# Altium integrated library Resistors.IntLib: 255 symbols (part 2 of 3)
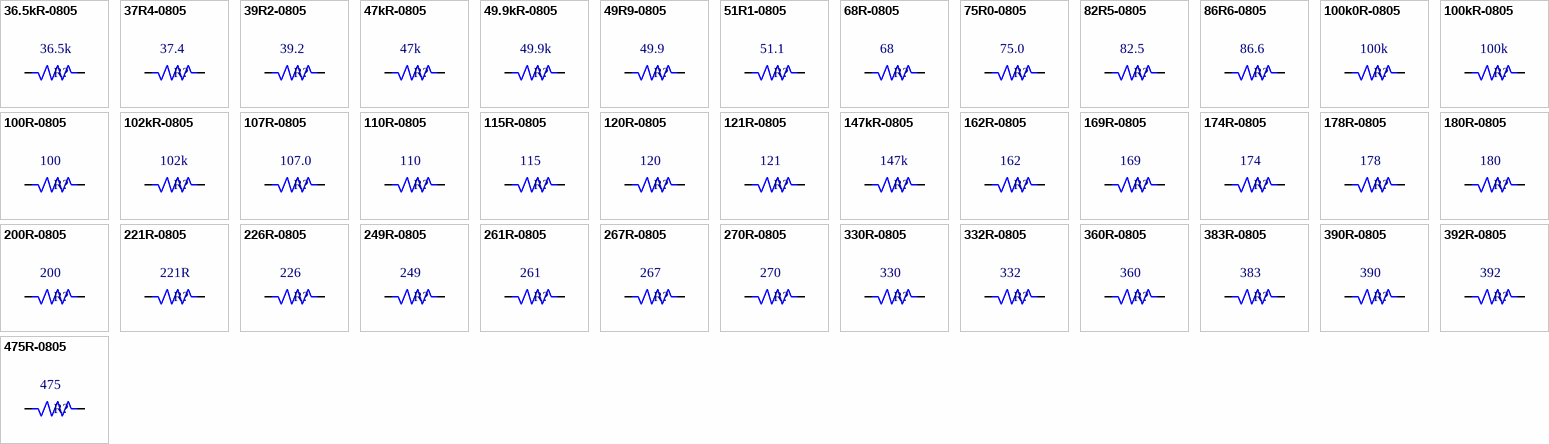
[diagram p11: symbols 36.5kR-0805 to 475R-0805]

## 75R0-0805
designator R?, comment value 75.0  (hidden comment: 75R0, 0805)
75R0, 0805 SMT resistor, 1/8W, 1%; PackageDescription: Chip Resistor 0805; Supplier 1: Mouser; Supplier 2: Newark; Supplier Part Number 1: 71-CRCW080575R0FKEB; Supplier Part Number 2: 53K0467; Package Reference: 0805
simulation model RESISTOR (Resistor)
signal-integrity model Res
footprint R0805 (Chip Resistor, Body 2.0x1.2mm, IPC Medium Density)
3D model 0805-Res (PCB3D Model)
pins: 1, 2

## 82R5-0805
designator R?, comment value 82.5  (hidden comment: 82R5, 0805)
82R5, 0805 SMT resistor, 1/8W, 1%; PackageDescription: Chip Resistor 0805; Supplier 1: Mouser; Supplier 2: Digi-Key; Supplier 3: Newark; Supplier Part Number 1: 71-CRCW0805-82.5-E3; Supplier Part Number 2: 541-82.5CDKR-ND; Supplier Part Number 3: 53W4915; Package Reference: 0805
simulation model RESISTOR (Resistor)
signal-integrity model Res
footprint R0805 (Chip Resistor, Body 2.0x1.2mm, IPC Medium Density)
3D model 0805-Res (PCB3D Model)
pins: 1, 2

## 86R6-0805
designator R?, comment value 86.6  (hidden comment: 86R6, 0805)
86R6, 0805 SMT resistor, 1/8W, 1%; PackageDescription: Chip Resistor 0805; Supplier 1: Arrow; Supplier 2: Mouser; Supplier 3: Digi-Key; Supplier 4: Newark; Supplier Part Number 1: CRCW080586R6FKEAHP; Supplier Part Number 2: 71-CRCW0805-86.6-E3; Supplier Part Number 3: 541-86.6CTR-ND; Supplier Part Number 4: 53K0518; Package Reference: 0805
simulation model RESISTOR (Resistor)
signal-integrity model Res
footprint R0805 (Chip Resistor, Body 2.0x1.2mm, IPC Medium Density)
3D model 0805-Res (PCB3D Model)
pins: 1, 2

## 100k0R-0805
designator R?, comment value 100k  (hidden comment: 100k, 0805)
100k, 0805 SMT resistor, 1/8W, 1%; PackageDescription: Chip Resistor 0805; Supplier 1: Newark; Supplier 2: Digi-Key; Supplier 3: Mouser; Supplier Part Number 1: 52K9808; Supplier Part Number 2: 541-100KCCT-ND; Supplier Part Number 3: 71-CRCW0805-100K-E3; Package Reference: 0805
simulation model RESISTOR (Resistor)
signal-integrity model Res
footprint R0805 (Chip Resistor, Body 2.0x1.2mm, IPC Medium Density)
3D model 0805-Res (PCB3D Model)
pins: 1, 2

## 100kR-0805
designator R?, comment value 100k  (hidden comment: 100k, 0805)
100k, 0805 SMT resistor, 1/8W, 5%; PackageDescription: Chip Resistor 0805; Supplier 1: Digi-Key; Supplier 2: Newark; Supplier 3: Mouser; Supplier Part Number 1: 541-100KADKR-ND; Supplier Part Number 2: 59M6850; Supplier Part Number 3: 71-CRCW0805J-100K-E3; Package Reference: 0805
simulation model RESISTOR (Resistor)
signal-integrity model Res
footprint R0805 (Chip Resistor, Body 2.0x1.2mm, IPC Medium Density)
3D model 0805-Res (PCB3D Model)
pins: 1, 2

## 100R-0805
designator R?, comment value 100  (hidden comment: 100R, 0805)
100R, 0805 SMT resistor, 1/8W, 5%; PackageDescription: Chip Resistor 0805; Supplier 1: Mouser; Supplier 2: Digi-Key; Supplier 3: Newark; Supplier Part Number 1: 71-CRCW0805100RJNEA; Supplier Part Number 2: 541-100ADKR-ND; Supplier Part Number 3: 59M6851; Package Reference: 0805
simulation model RESISTOR (Resistor)
signal-integrity model Res
footprint R0805 (Chip Resistor, Body 2.0x1.2mm, IPC Medium Density)
3D model 0805-Res (PCB3D Model)
pins: 1, 2

## 102kR-0805
designator R?, comment value 102k  (hidden comment: 102k, 0805)
102k, 0805 SMT resistor, 1/8W, 1%; PackageDescription: Chip Resistor 0805; Supplier 1: Mouser; Supplier 2: Newark; Supplier 3: Digi-Key; Supplier Part Number 1: 71-CRCW0805102KFKEA; Supplier Part Number 2: 89M6802; Supplier Part Number 3: 541-102KCCT-ND; Package Reference: 0805
simulation model RESISTOR (Resistor)
signal-integrity model Res
footprint R0805 (Chip Resistor, Body 2.0x1.2mm, IPC Medium Density)
3D model 0805-Res (PCB3D Model)
pins: 1, 2

## 107R-0805
designator R?, comment value 107.0  (hidden comment: 107R, 0805)
107R, 0805 SMT resistor, 1/8W, 1%; PackageDescription: Chip Resistor 0805; Supplier 1: Newark; Supplier 2: Mouser; Supplier 3: Digi-Key; Supplier Part Number 1: 90W3249; Supplier Part Number 2: 71-CRCW0805-107-E3; Supplier Part Number 3: 541-107CTR-ND; Package Reference: 0805
simulation model RESISTOR (Resistor)
signal-integrity model Res
footprint R0805 (Chip Resistor, Body 2.0x1.2mm, IPC Medium Density)
3D model 0805-Res (PCB3D Model)
pins: 1, 2

## 110R-0805
designator R?, comment value 110  (hidden comment: 110R, 0805)
110R, 0805 SMT resistor, 1/8W, 1%; PackageDescription: Chip Resistor 0805; Supplier 1: Digi-Key; Supplier 2: Mouser; Supplier 3: Newark; Supplier Part Number 1: 541-110CTR-ND; Supplier Part Number 2: 71-CRCW0805-110-E3; Supplier Part Number 3: 52K9828; Package Reference: 0805
simulation model RESISTOR (Resistor)
signal-integrity model Res
footprint R0805 (Chip Resistor, Body 2.0x1.2mm, IPC Medium Density)
3D model 0805-Res (PCB3D Model)
pins: 1, 2

## 115R-0805
designator R?, comment value 115  (hidden comment: 115R, 0805)
115R, 0805 SMT resistor, 1/8W, 1%; PackageDescription: Chip Resistor 0805; Supplier 1: Mouser; Supplier 2: Newark; Supplier 3: Arrow; Supplier 4: Digi-Key; Supplier Part Number 1: 71-CRCW0805-115-E3; Supplier Part Number 2: 52K9833; Supplier Part Number 3: CRCW0805115RFKEA; Supplier Part Number 4: 541-115CTR-ND; Package Reference: 0805
simulation model RESISTOR (Resistor)
signal-integrity model Res
footprint R0805 (Chip Resistor, Body 2.0x1.2mm, IPC Medium Density)
3D model 0805-Res (PCB3D Model)
pins: 1, 2

## 120R-0805
designator R?, comment value 120  (hidden comment: 120R, 0805)
120R, 0805 SMT resistor, 1/8W, 1%; PackageDescription: Chip Resistor 0805; Supplier 1: Digi-Key; Supplier 2: Mouser; Supplier 3: Newark; Supplier Part Number 1: 541-120CTR-ND; Supplier Part Number 2: 71-CRCW0805120RFKEA; Supplier Part Number 3: 52K9845; Package Reference: 0805
simulation model RESISTOR (Resistor)
signal-integrity model Res
footprint R0805 (Chip Resistor, Body 2.0x1.2mm, IPC Medium Density)
3D model 0805-Res (PCB3D Model)
pins: 1, 2

## 121R-0805
designator R?, comment value 121  (hidden comment: 121R, 0805)
121R, 0805 SMT resistor, 1/8W, 1%; PackageDescription: Chip Resistor 0805; Supplier 1: Newark; Supplier 2: Digi-Key; Supplier 3: Mouser; Supplier Part Number 1: 52K9848; Supplier Part Number 2: 541-121CTR-ND; Supplier Part Number 3: 71-CRCW0805-121-E3; Package Reference: 0805
simulation model RESISTOR (Resistor)
signal-integrity model Res
footprint R0805 (Chip Resistor, Body 2.0x1.2mm, IPC Medium Density)
3D model 0805-Res (PCB3D Model)
pins: 1, 2

## 147kR-0805
designator R?, comment value 147k  (hidden comment: 147k, 0805)
147k, 0805 SMT resistor, 1/8W, 1%; PackageDescription: Chip Resistor 0805; Supplier 1: Newark; Supplier 2: Mouser; Supplier 3: Digi-Key; Supplier 4: Newark; Supplier 5: Newark; Supplier Part Number 1: 52K9880; Supplier Part Number 2: 71-CRCW0805-147K-E3; Supplier Part Number 3: 541-147KCCT-ND; Supplier Part Number 4: 94W6088; Supplier Part Number 5: 90W3298; Package Reference: 0805
simulation model RESISTOR (Resistor)
signal-integrity model Res
footprint R0805 (Chip Resistor, Body 2.0x1.2mm, IPC Medium Density)
3D model 0805-Res (PCB3D Model)
pins: 1, 2

## 162R-0805
designator R?, comment value 162  (hidden comment: 162R, 0805)
162R, 0805 SMT resistor, 1/8W, 1%; PackageDescription: Chip Resistor 0805; Supplier 1: Newark; Supplier 2: Newark; Supplier 3: Digi-Key; Supplier 4: Digi-Key; Supplier Part Number 1: 52K9909; Supplier Part Number 2: 90W3318; Supplier Part Number 3: CRCW0805162RFKEAHP-ND; Supplier Part Number 4: 541-162CCT-ND; Package Reference: 0805
simulation model RESISTOR (Resistor)
signal-integrity model Res
footprint R0805 (Chip Resistor, Body 2.0x1.2mm, IPC Medium Density)
3D model 0805-Res (PCB3D Model)
pins: 1, 2

## 169R-0805
designator R?, comment value 169  (hidden comment: 169R, 0805)
169R, 0805 SMT resistor, 1/8W, 1%; PackageDescription: Chip Resistor 0805; Supplier 1: Digi-Key; Supplier 2: Newark; Supplier 3: Mouser; Supplier Part Number 1: 541-169CCT-ND; Supplier Part Number 2: 52K9913; Supplier Part Number 3: 71-CRCW0805-169-E3; Package Reference: 0805
simulation model RESISTOR (Resistor)
signal-integrity model Res
footprint R0805 (Chip Resistor, Body 2.0x1.2mm, IPC Medium Density)
3D model 0805-Res (PCB3D Model)
pins: 1, 2

## 174R-0805
designator R?, comment value 174  (hidden comment: 174R, 0805)
174R, 0805 SMT resistor, 1/8W, 1%; PackageDescription: Chip Resistor 0805; Supplier 1: Mouser; Supplier 2: Digi-Key; Supplier 3: Newark; Supplier Part Number 1: 71-CRCW0805-174-E3; Supplier Part Number 2: 541-174CCT-ND; Supplier Part Number 3: 52K9920; Package Reference: 0805
simulation model RESISTOR (Resistor)
signal-integrity model Res
footprint R0805 (Chip Resistor, Body 2.0x1.2mm, IPC Medium Density)
3D model 0805-Res (PCB3D Model)
pins: 1, 2

## 178R-0805
designator R?, comment value 178  (hidden comment: 178R, 0805)
178R, 0805 SMT resistor, 1/8W, 1%; PackageDescription: Chip Resistor 0805; Supplier 1: Newark; Supplier 2: Digi-Key; Supplier 3: Mouser; Supplier Part Number 1: 52K9922; Supplier Part Number 2: 541-178CCT-ND; Supplier Part Number 3: 71-CRCW0805-178-E3; Package Reference: 0805
simulation model RESISTOR (Resistor)
signal-integrity model Res
footprint R0805 (Chip Resistor, Body 2.0x1.2mm, IPC Medium Density)
3D model 0805-Res (PCB3D Model)
pins: 1, 2

## 180R-0805
designator R?, comment value 180  (hidden comment: 180R, 0805)
180R, 0805 SMT resistor, 1/8W, 5%; PackageDescription: Chip Resistor 0805; Supplier 1: Newark; Supplier 2: Digi-Key; Supplier 3: Mouser; Supplier Part Number 1: 59M6863; Supplier Part Number 2: 541-180ACT-ND; Supplier Part Number 3: 71-CRCW0805180RJNEA; Package Reference: 0805
simulation model RESISTOR (Resistor)
signal-integrity model Res
footprint R0805 (Chip Resistor, Body 2.0x1.2mm, IPC Medium Density)
3D model 0805-Res (PCB3D Model)
pins: 1, 2

## 200R-0805
designator R?, comment value 200  (hidden comment: 200R, 0805)
200R, 0805 SMT resistor, 1/8W, 1%; PackageDescription: Chip Resistor 0805; Supplier 1: Mouser; Supplier 2: Digi-Key; Supplier 3: Newark; Supplier Part Number 1: 71-CRCW0805-200-E3; Supplier Part Number 2: 541-200CCT-ND; Supplier Part Number 3: 53K0006; Package Reference: 0805
simulation model RESISTOR (Resistor)
signal-integrity model Res
footprint R0805 (Chip Resistor, Body 2.0x1.2mm, IPC Medium Density)
3D model 0805-Res (PCB3D Model)
pins: 1, 2

## 221R-0805
designator R?, comment value 221R  (hidden comment: 221R, 0805)
221R, 0805 SMT resistor, 1/8W, 1%; PackageDescription: Chip Resistor 0805; Supplier 1: Newark; Supplier 2: Digi-Key; Supplier 3: Newark; Supplier 4: Mouser; Supplier Part Number 1: 53K0029; Supplier Part Number 2: 541-221CCT-ND; Supplier Part Number 3: 65T8720; Supplier Part Number 4: 71-CRCW0805-221-E3; Package Reference: 0805
simulation model RESISTOR (Resistor)
signal-integrity model Res
footprint R0805 (Chip Resistor, Body 2.0x1.2mm, IPC Medium Density)
3D model 0805-Res (PCB3D Model)
pins: 1, 2

## 226R-0805
designator R?, comment value 226  (hidden comment: 226R, 0805)
226R, 0805 SMT resistor, 1/8W, 1%; PackageDescription: Chip Resistor 0805; Supplier 1: Digi-Key; Supplier 2: Newark; Supplier 3: Mouser; Supplier Part Number 1: 541-226CCT-ND; Supplier Part Number 2: 53K0031; Supplier Part Number 3: 71-CRCW0805226RFKEA; Package Reference: 0805
simulation model RESISTOR (Resistor)
signal-integrity model Res
footprint R0805 (Chip Resistor, Body 2.0x1.2mm, IPC Medium Density)
3D model 0805-Res (PCB3D Model)
pins: 1, 2

## 249R-0805
designator R?, comment value 249  (hidden comment: 249R, 0805)
249R, 0805 SMT resistor, 1/8W, 1%; PackageDescription: Chip Resistor 0805; Supplier 1: Digi-Key; Supplier 2: Mouser; Supplier 3: Newark; Supplier Part Number 1: 541-249CCT-ND; Supplier Part Number 2: 71-CRCW0805-249-E3; Supplier Part Number 3: 53K0052; Package Reference: 0805
simulation model RESISTOR (Resistor)
signal-integrity model Res
footprint R0805 (Chip Resistor, Body 2.0x1.2mm, IPC Medium Density)
3D model 0805-Res (PCB3D Model)
pins: 1, 2

## 261R-0805
designator R?, comment value 261  (hidden comment: xxx, 0805)
261R, 0805 SMT resistor, 1/8W, 1%; PackageDescription: Chip Resistor 0805; Supplier 1: Newark; Supplier 2: Mouser; Supplier 3: Digi-Key; Supplier Part Number 1: 53K0065; Supplier Part Number 2: 71-CRCW0805-261-E3; Supplier Part Number 3: 541-261CCT-ND; Package Reference: 0805
simulation model RESISTOR (Resistor)
signal-integrity model Res
footprint R0805 (Chip Resistor, Body 2.0x1.2mm, IPC Medium Density)
3D model 0805-Res (PCB3D Model)
pins: 1, 2

## 267R-0805
designator R?, comment value 267  (hidden comment: 267R, 0805)
267R, 0805 SMT resistor, 1/8W, 1%; PackageDescription: Chip Resistor 0805; Supplier 1: Newark; Supplier 2: Digi-Key; Supplier 3: Mouser; Supplier 4: Newark; Supplier Part Number 1: 90W3390; Supplier Part Number 2: 541-267CCT-ND; Supplier Part Number 3: 71-CRCW0805-267-E3; Supplier Part Number 4: 27W4592; Package Reference: 0805
simulation model RESISTOR (Resistor)
signal-integrity model Res
footprint R0805 (Chip Resistor, Body 2.0x1.2mm, IPC Medium Density)
3D model 0805-Res (PCB3D Model)
pins: 1, 2

## 270R-0805
designator R?, comment value 270  (hidden comment: 270R, 0805)
270R, 0805 SMT resistor, 1/8W, 1%; PackageDescription: Chip Resistor 0805; Supplier 1: Newark; Supplier 2: Mouser; Supplier 3: Digi-Key; Supplier Part Number 1: 27W4597; Supplier Part Number 2: 71-CRCW0805-270-E3; Supplier Part Number 3: CRCW0805270RFKEAHPCT-ND; Package Reference: 0805
simulation model RESISTOR (Resistor)
signal-integrity model Res
footprint R0805 (Chip Resistor, Body 2.0x1.2mm, IPC Medium Density)
3D model 0805-Res (PCB3D Model)
pins: 1, 2

## 330R-0805
designator R?, comment value 330  (hidden comment: 330R, 0805)
330R, 0805 SMT resistor, 1/8W, 5%; PackageDescription: Chip Resistor 0805; Supplier 1: Mouser; Supplier 2: Newark; Supplier 3: Digi-Key; Supplier Part Number 1: 71-CRCW0805J-330-E3; Supplier Part Number 2: 59M6894; Supplier Part Number 3: 541-330ACT-ND; Package Reference: 0805
simulation model RESISTOR (Resistor)
signal-integrity model Res
footprint R0805 (Chip Resistor, Body 2.0x1.2mm, IPC Medium Density)
3D model 0805-Res (PCB3D Model)
pins: 1, 2

## 332R-0805
designator R?, comment value 332  (hidden comment: 332R, 0805)
332R, 0805 SMT resistor, 1/8W, 1%; PackageDescription: Chip Resistor 0805; Supplier 1: Newark; Supplier 2: Digi-Key; Supplier 3: Mouser; Supplier Part Number 1: 27W4644; Supplier Part Number 2: 541-332CCT-ND; Supplier Part Number 3: 71-CRCW0805-332-E3; Package Reference: 0805
simulation model RESISTOR (Resistor)
signal-integrity model Res
footprint R0805 (Chip Resistor, Body 2.0x1.2mm, IPC Medium Density)
3D model 0805-Res (PCB3D Model)
pins: 1, 2

## 360R-0805
designator R?, comment value 360  (hidden comment: 360R, 0805)
360R, 0805 SMT resistor, 1/8W, 1%; PackageDescription: Chip Resistor 0805; Supplier 1: Mouser; Supplier 2: Newark; Supplier 3: Digi-Key; Supplier Part Number 1: 71-CRCW0805360RFKEA; Supplier Part Number 2: 27W4659; Supplier Part Number 3: 541-360CCT-ND; Package Reference: 0805
simulation model RESISTOR (Resistor)
signal-integrity model Res
footprint R0805 (Chip Resistor, Body 2.0x1.2mm, IPC Medium Density)
3D model 0805-Res (PCB3D Model)
pins: 1, 2

## 383R-0805
designator R?, comment value 383  (hidden comment: 383R, 0805)
383R, 0805 SMT resistor, 1/8W, 1%; PackageDescription: Chip Resistor 0805; Supplier 1: Newark; Supplier 2: Digi-Key; Supplier 3: Mouser; Supplier Part Number 1: 27W4666; Supplier Part Number 2: 541-383CCT-ND; Supplier Part Number 3: 71-CRCW0805-383-E3; Package Reference: 0805
simulation model RESISTOR (Resistor)
signal-integrity model Res
footprint R0805 (Chip Resistor, Body 2.0x1.2mm, IPC Medium Density)
3D model 0805-Res (PCB3D Model)
pins: 1, 2

## 390R-0805
designator R?, comment value 390  (hidden comment: 390R, 0805)
390R, 0805 SMT resistor, 1/8W, 1%; PackageDescription: Chip Resistor 0805; Supplier 1: Mouser; Supplier 2: Newark; Supplier 3: Digi-Key; Supplier Part Number 1: 71-CRCW0805390RFKEA; Supplier Part Number 2: 27W4671; Supplier Part Number 3: 541-390CCT-ND; Package Reference: 0805
simulation model RESISTOR (Resistor)
signal-integrity model Res
footprint R0805 (Chip Resistor, Body 2.0x1.2mm, IPC Medium Density)
3D model 0805-Res (PCB3D Model)
pins: 1, 2

## 392R-0805
designator R?, comment value 392  (hidden comment: 392R, 0805)
392R, 0805 SMT resistor, 1/8W, 1%; PackageDescription: Chip Resistor 0805; Supplier 1: Digi-Key; Supplier 2: Mouser; Supplier 3: Newark; Supplier Part Number 1: 541-392CCT-ND; Supplier Part Number 2: 71-CRCW0805-392-E3; Supplier Part Number 3: 27W4673; Package Reference: 0805
simulation model RESISTOR (Resistor)
signal-integrity model Res
footprint R0805 (Chip Resistor, Body 2.0x1.2mm, IPC Medium Density)
3D model 0805-Res (PCB3D Model)
pins: 1, 2

## 475R-0805
designator R?, comment value 475  (hidden comment: 475R, 0805)
475R, 0805 SMT resistor, 1/8W, 1%; PackageDescription: Chip Resistor 0805; Supplier 1: Newark; Supplier 2: Digi-Key; Supplier 3: Mouser; Supplier Part Number 1: 53K0286; Supplier Part Number 2: 541-475CCT-ND; Supplier Part Number 3: 71-CRCW0805-475-E3; Package Reference: 0805
simulation model RESISTOR (Resistor)
signal-integrity model Res
footprint R0805 (Chip Resistor, Body 2.0x1.2mm, IPC Medium Density)
3D model 0805-Res (PCB3D Model)
pins: 1, 2

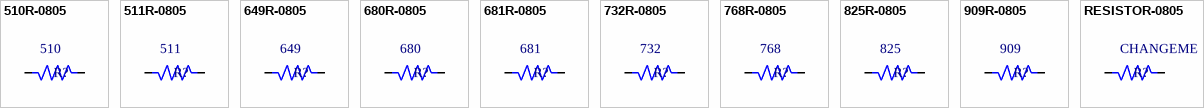
[diagram p4: symbols 510R-0805 to RESISTOR-0805]

## 510R-0805
designator R?, comment value 510  (hidden comment: 510R, 0805)
510R, 0805 SMT resistor, 1/8W, 5%; PackageDescription: Chip Resistor 0805; Supplier 1: Newark; Supplier 2: Mouser; Supplier 3: Digi-Key; Supplier Part Number 1: 51P0442; Supplier Part Number 2: 71-CRCW0805510RJNEA; Supplier Part Number 3: 541-510ACT-ND; Package Reference: 0805
simulation model RESISTOR (Resistor)
signal-integrity model Res
footprint R0805 (Chip Resistor, Body 2.0x1.2mm, IPC Medium Density)
3D model 0805-Res (PCB3D Model)
pins: 1, 2

## 511R-0805
designator R?, comment value 511  (hidden comment: 511R, 0805)
511R, 0805 SMT resistor, 1/8W, 1%; PackageDescription: Chip Resistor 0805; Supplier 1: Digi-Key; Supplier 2: Mouser; Supplier 3: Newark; Supplier Part Number 1: 541-511CCT-ND; Supplier Part Number 2: 71-CRCW0805-511-E3; Supplier Part Number 3: 53K0335; Package Reference: 0805
simulation model RESISTOR (Resistor)
signal-integrity model Res
footprint R0805 (Chip Resistor, Body 2.0x1.2mm, IPC Medium Density)
3D model 0805-Res (PCB3D Model)
pins: 1, 2

## 649R-0805
designator R?, comment value 649  (hidden comment: 649, 0805)
649, 0805 SMT resistor, 1/8W, 1%; PackageDescription: Chip Resistor 0805; Supplier 1: Digi-Key; Supplier 2: Newark; Supplier 3: Mouser; Supplier Part Number 1: 541-649CCT-ND; Supplier Part Number 2: 53K0422; Supplier Part Number 3: 71-CRCW0805-649-E3; Package Reference: 0805
simulation model RESISTOR (Resistor)
signal-integrity model Res
footprint R0805 (Chip Resistor, Body 2.0x1.2mm, IPC Medium Density)
3D model 0805-Res (PCB3D Model)
pins: 1, 2

## 680R-0805
designator R?, comment value 680  (hidden comment: 680, 0805)
680, 0805 SMT resistor, 1/8W, 1%; PackageDescription: Chip Resistor 0805; Supplier 1: Digi-Key; Supplier 2: Newark; Supplier 3: Mouser; Supplier Part Number 1: 541-680CCT-ND; Supplier Part Number 2: 53K0433; Supplier Part Number 3: 71-CRCW0805680RFKEA; Package Reference: 0805
simulation model RESISTOR (Resistor)
signal-integrity model Res
footprint R0805 (Chip Resistor, Body 2.0x1.2mm, IPC Medium Density)
3D model 0805-Res (PCB3D Model)
pins: 1, 2

## 681R-0805
designator R?, comment value 681  (hidden comment: 681R, 0805)
681R, 0805 SMT resistor, 1/8W, 1%; PackageDescription: Chip Resistor 0805; Supplier 1: Digi-Key; Supplier 2: Newark; Supplier 3: Mouser; Supplier Part Number 1: 541-681CCT-ND; Supplier Part Number 2: 53K0435; Supplier Part Number 3: 71-CRCW0805-681-E3; Package Reference: 0805
simulation model RESISTOR (Resistor)
signal-integrity model Res
footprint R0805 (Chip Resistor, Body 2.0x1.2mm, IPC Medium Density)
3D model 0805-Res (PCB3D Model)
pins: 1, 2

## 732R-0805
designator R?, comment value 732  (hidden comment: 732R, 0805)
732R, 0805 SMT resistor, 1/8W, 1%; PackageDescription: Chip Resistor 0805; Supplier 1: Digi-Key; Supplier 2: Newark; Supplier 3: Mouser; Supplier Part Number 1: 541-732CCT-ND; Supplier Part Number 2: 53K0465; Supplier Part Number 3: 71-CRCW0805732RFKEA; Package Reference: 0805
simulation model RESISTOR (Resistor)
signal-integrity model Res
footprint R0805 (Chip Resistor, Body 2.0x1.2mm, IPC Medium Density)
3D model 0805-Res (PCB3D Model)
pins: 1, 2

## 768R-0805
designator R?, comment value 768  (hidden comment: 768R, 0805)
768R, 0805 SMT resistor, 1/8W, 1%; PackageDescription: Chip Resistor 0805; Supplier 1: Newark; Supplier 2: Digi-Key; Supplier 3: Mouser; Supplier Part Number 1: 53K0474; Supplier Part Number 2: 541-768CCT-ND; Supplier Part Number 3: 71-CRCW0805-768-E3; Package Reference: 0805
simulation model RESISTOR (Resistor)
signal-integrity model Res
footprint R0805 (Chip Resistor, Body 2.0x1.2mm, IPC Medium Density)
3D model 0805-Res (PCB3D Model)
pins: 1, 2

## 825R-0805
designator R?, comment value 825  (hidden comment: 825R, 0805)
825R, 0805 SMT resistor, 1/8W, 1%; PackageDescription: Chip Resistor 0805; Supplier 1: Digi-Key; Supplier 2: Newark; Supplier 3: Mouser; Supplier Part Number 1: 541-825CCT-ND; Supplier Part Number 2: 53K0512; Supplier Part Number 3: 71-CRCW0805-825-E3; Package Reference: 0805
simulation model RESISTOR (Resistor)
signal-integrity model Res
footprint R0805 (Chip Resistor, Body 2.0x1.2mm, IPC Medium Density)
3D model 0805-Res (PCB3D Model)
pins: 1, 2

## 909R-0805
designator R?, comment value 909  (hidden comment: 909R, 0805)
909R, 0805 SMT resistor, 1/8W, 1%; PackageDescription: Chip Resistor 0805; Supplier 1: Newark; Supplier 2: Mouser; Supplier 3: Digi-Key; Supplier Part Number 1: 42K4703; Supplier Part Number 2: 71-CRCW0805-909-E3; Supplier Part Number 3: 541-909CCT-ND; Package Reference: 0805
simulation model RESISTOR (Resistor)
signal-integrity model Res
footprint R0805 (Chip Resistor, Body 2.0x1.2mm, IPC Medium Density)
3D model 0805-Res (PCB3D Model)
pins: 1, 2

## RESISTOR-0805
designator R?, comment value CHANGEME  (hidden comment: Generic Resistor, 0805)
Generic, 0805 SMT resistor, 1/8W, x%; PackageDescription: Chip Resistor 0805; Package Reference: 0805
simulation model RESISTOR (Resistor)
signal-integrity model Res
footprint R0805 (Chip Resistor, Body 2.0x1.2mm, IPC Medium Density)
3D model 1206-Res (PCB3D Model)
pins: 1, 2


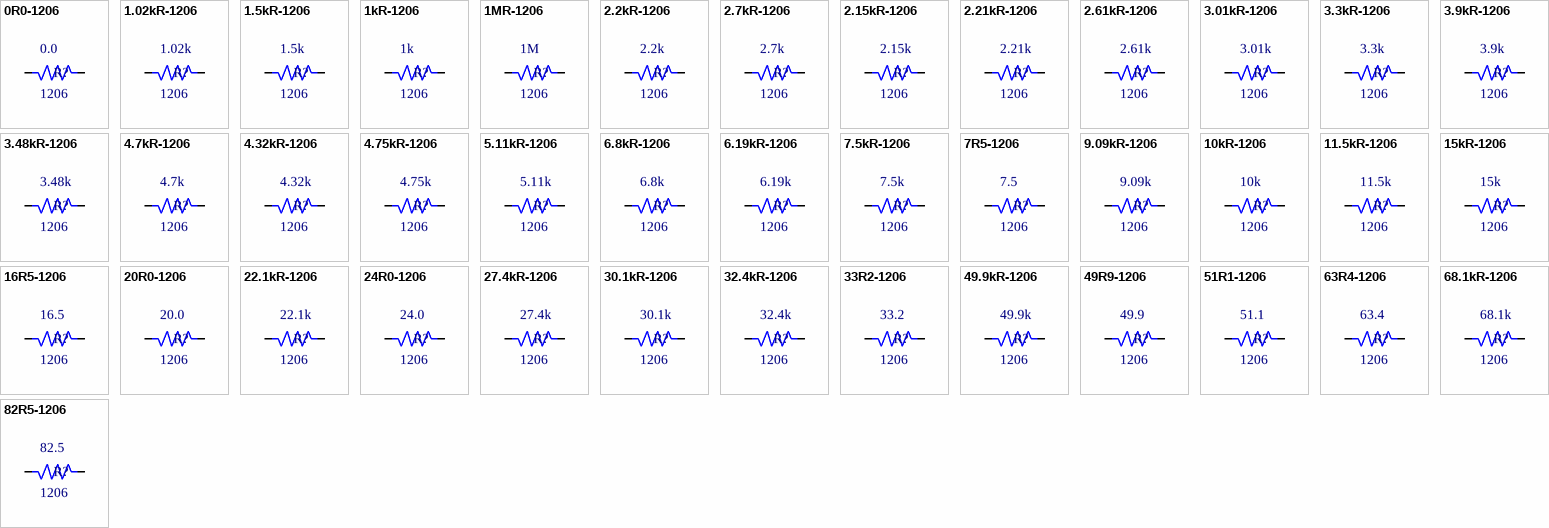
[diagram p5: symbols 0R0-1206 to 82R5-1206]

## 0R0-1206
designator R?, comment value 0.0  Package Reference: 1206  (hidden comment: ERJ-8GEY0R00V)
0R, 1206 SMT resistor, 1/4W; PackageDescription: Chip Resistor 1206; Supplier 1: Digi-Key; Supplier 2: Mouser; Supplier 3: Newark; Supplier Part Number 1: P0.0ECT-ND; Supplier Part Number 2: 667-ERJ-8GEY0R00V; Supplier Part Number 3: 65T8967
simulation model RESISTOR (Resistor)
signal-integrity model Res
footprint R1206 (Chip Resistor, Body 3.2x1.6mm, IPC Medium Density)
3D model 1206-Res (PCB3D Model)
pins: 1, 2

## 1.02kR-1206
designator R?, comment value 1.02k  Package Reference: 1206  (hidden comment: ERJ-8ENF1021V)
1.02k, 1206 SMT resistor, 1/4W, 1%; PackageDescription: Chip Resistor 1206; Supplier 1: Digi-Key; Supplier 2: Newark; Supplier 3: Mouser; Supplier Part Number 1: P1.02KFCT-ND; Supplier Part Number 2: 90W3552; Supplier Part Number 3: 667-ERJ-8ENF1021V
simulation model RESISTOR (Resistor)
signal-integrity model Res
footprint R1206 (Chip Resistor, Body 3.2x1.6mm, IPC Medium Density)
3D model 1206-Res (PCB3D Model)
pins: 1, 2

## 1.5kR-1206
designator R?, comment value 1.5k  Package Reference: 1206  (hidden comment: ERJ-8ENF1501V)
1.5k, 1206 SMT resistor, 1/4W, 1%; PackageDescription: Chip Resistor 1206; Supplier 1: Newark; Supplier 2: Digi-Key; Supplier 3: Mouser; Supplier Part Number 1: 64R5441; Supplier Part Number 2: P1.50KFCT-ND; Supplier Part Number 3: 667-ERJ-8ENF1501V
simulation model RESISTOR (Resistor)
signal-integrity model Res
footprint R1206 (Chip Resistor, Body 3.2x1.6mm, IPC Medium Density)
3D model 1206-Res (PCB3D Model)
pins: 1, 2

## 1kR-1206
designator R?, comment value 1k  Package Reference: 1206  (hidden comment: ERJ-8GEYJ102V)
1k, 1206 SMT resistor, 1/4W, 5%; PackageDescription: Chip Resistor 1206; Supplier 1: Newark; Supplier 2: Mouser; Supplier 3: Digi-Key; Supplier Part Number 1: 65T8894; Supplier Part Number 2: 667-ERJ-8GEYJ102V; Supplier Part Number 3: P1.0KECT-ND
simulation model RESISTOR (Resistor)
signal-integrity model Res
footprint R1206 (Chip Resistor, Body 3.2x1.6mm, IPC Medium Density)
3D model 1206-Res (PCB3D Model)
pins: 1, 2

## 1MR-1206
designator R?, comment value 1M  Package Reference: 1206  (hidden comment: 1M, 1206)
1M, 1206 SMT resistor, 1/4W, 5%; PackageDescription: Chip Resistor 1206; Supplier 1: Mouser; Supplier 2: Digi-Key; Supplier 3: Newark; Supplier Part Number 1: 667-ERJ-8GEYJ105V; Supplier Part Number 2: P1.0MECT-ND; Supplier Part Number 3: 65T8897
simulation model RESISTOR (Resistor)
signal-integrity model Res
footprint R1206 (Chip Resistor, Body 3.2x1.6mm, IPC Medium Density)
3D model 1206-Res (PCB3D Model)
pins: 1, 2

## 2.2kR-1206
designator R?, comment value 2.2k  Package Reference: 1206  (hidden comment: 2.2k, 1206)
2.2k, 1206 SMT resistor, 1/4W, 1%; PackageDescription: Chip Resistor 1206; Supplier 1: Mouser; Supplier 2: Newark; Supplier 3: Digi-Key; Supplier Part Number 1: 667-ERJ-8ENF2201V; Supplier Part Number 2: 64R5451; Supplier Part Number 3: P2.20KFCT-ND
simulation model RESISTOR (Resistor)
signal-integrity model Res
footprint R1206 (Chip Resistor, Body 3.2x1.6mm, IPC Medium Density)
3D model 1206-Res (PCB3D Model)
pins: 1, 2

## 2.7kR-1206
designator R?, comment value 2.7k  Package Reference: 1206  (hidden comment: 2.7k, 1206)
2.7k, 1206 SMT resistor, 1/4W, 5%; PackageDescription: Chip Resistor 1206; Supplier 1: Mouser; Supplier 2: Newark; Supplier 3: Digi-Key; Supplier Part Number 1: 667-ERJ-8GEYJ272V; Supplier Part Number 2: 65T8925; Supplier Part Number 3: P2.7KECT-ND
simulation model RESISTOR (Resistor)
signal-integrity model Res
footprint R1206 (Chip Resistor, Body 3.2x1.6mm, IPC Medium Density)
3D model 1206-Res (PCB3D Model)
pins: 1, 2

## 2.15kR-1206
designator R?, comment value 2.15k  Package Reference: 1206  (hidden comment: ERJ-8ENF2151V)
2.15k, 1206 SMT resistor, 1/4W, 1%; PackageDescription: Chip Resistor 1206; Supplier 1: Digi-Key; Supplier 2: Newark; Supplier 3: Mouser; Supplier Part Number 1: P2.15KFCT-ND; Supplier Part Number 2: 90W3741; Supplier Part Number 3: 667-ERJ-8ENF2151V
simulation model RESISTOR (Resistor)
signal-integrity model Res
footprint R1206 (Chip Resistor, Body 3.2x1.6mm, IPC Medium Density)
3D model 1206-Res (PCB3D Model)
pins: 1, 2

## 2.21kR-1206
designator R?, comment value 2.21k  Package Reference: 1206  (hidden comment: 2.21k, 1206)
2.21k, 1206 SMT resistor, 1/4W, 1%; PackageDescription: Chip Resistor 1206; Supplier 1: Mouser; Supplier 2: Digi-Key; Supplier 3: Newark; Supplier Part Number 1: 667-ERJ-8ENF2211V; Supplier Part Number 2: P2.21KFCT-ND; Supplier Part Number 3: 65T8860
simulation model RESISTOR (Resistor)
signal-integrity model Res
footprint R1206 (Chip Resistor, Body 3.2x1.6mm, IPC Medium Density)
3D model 1206-Res (PCB3D Model)
pins: 1, 2

## 2.61kR-1206
designator R?, comment value 2.61k  Package Reference: 1206  (hidden comment: 2.61k, 1206)
2.61k, 1206 SMT resistor, 1/4W, 1%; PackageDescription: Chip Resistor 1206; Supplier 1: Mouser; Supplier 2: Digi-Key; Supplier 3: Newark; Supplier Part Number 1: 667-ERJ-8ENF2611V; Supplier Part Number 2: P2.61KFCT-ND; Supplier Part Number 3: 90W3782
simulation model RESISTOR (Resistor)
signal-integrity model Res
footprint R1206 (Chip Resistor, Body 3.2x1.6mm, IPC Medium Density)
3D model 1206-Res (PCB3D Model)
pins: 1, 2

## 3.01kR-1206
designator R?, comment value 3.01k  Package Reference: 1206  (hidden comment: 3.01k 1206)
3.01k, 1206 SMT resistor, 1/4W, 1%; PackageDescription: Chip Resistor 1206; Supplier 1: Mouser; Supplier 2: Newark; Supplier 3: Digi-Key; Supplier Part Number 1: 667-ERJ-8ENF3011V; Supplier Part Number 2: 65T8867; Supplier Part Number 3: P3.01KFCT-ND
simulation model RESISTOR (Resistor)
signal-integrity model Res
footprint R1206 (Chip Resistor, Body 3.2x1.6mm, IPC Medium Density)
3D model 1206-Res (PCB3D Model)
pins: 1, 2

## 3.3kR-1206
designator R?, comment value 3.3k  Package Reference: 1206  (hidden comment: 3.3k, 1206)
3.3k, 1206 SMT resistor, 1/4W, 5%; PackageDescription: Chip Resistor 1206; Supplier 1: Newark; Supplier 2: Mouser; Supplier 3: Digi-Key; Supplier Part Number 1: 65T8932; Supplier Part Number 2: 667-ERJ-8GEYJ332V; Supplier Part Number 3: P3.3KECT-ND
simulation model RESISTOR (Resistor)
signal-integrity model Res
footprint R1206 (Chip Resistor, Body 3.2x1.6mm, IPC Medium Density)
3D model 1206-Res (PCB3D Model)
pins: 1, 2

## 3.9kR-1206
designator R?, comment value 3.9k  Package Reference: 1206  (hidden comment: 3.9k, 1206)
3.9k, 1206 SMT resistor, 1/4W, 5%; PackageDescription: Chip Resistor 1206; Supplier 1: Mouser; Supplier 2: Newark; Supplier 3: Digi-Key; Supplier Part Number 1: 667-ERJ-8GEYJ392V; Supplier Part Number 2: 65T8938; Supplier Part Number 3: P3.9KECT-ND
simulation model RESISTOR (Resistor)
signal-integrity model Res
footprint R1206 (Chip Resistor, Body 3.2x1.6mm, IPC Medium Density)
3D model 1206-Res (PCB3D Model)
pins: 1, 2

## 3.48kR-1206
designator R?, comment value 3.48k  Package Reference: 1206  (hidden comment: 3.48k, 1206)
3.48k, 1206 SMT resistor, 1/4W, 1%; PackageDescription: Chip Resistor 1206; Supplier 1: Newark; Supplier 2: Mouser; Supplier 3: Digi-Key; Supplier Part Number 1: 90W3843; Supplier Part Number 2: 667-ERJ-8ENF3481V; Supplier Part Number 3: P3.48KFCT-ND
simulation model RESISTOR (Resistor)
signal-integrity model Res
footprint R1206 (Chip Resistor, Body 3.2x1.6mm, IPC Medium Density)
3D model 1206-Res (PCB3D Model)
pins: 1, 2

## 4.7kR-1206
designator R?, comment value 4.7k  Package Reference: 1206  (hidden comment: 4.7k, 1206)
4.7k, 1206 SMT resistor, 1/4W, 1%; PackageDescription: Chip Resistor 1206; Supplier 1: Mouser; Supplier 2: Digi-Key; Supplier 3: Newark; Supplier Part Number 1: 667-ERJ-8ENF4701V; Supplier Part Number 2: P4.70KFCT-ND; Supplier Part Number 3: 64R5471
simulation model RESISTOR (Resistor)
signal-integrity model Res
footprint R1206 (Chip Resistor, Body 3.2x1.6mm, IPC Medium Density)
3D model 1206-Res (PCB3D Model)
pins: 1, 2

## 4.32kR-1206
designator R?, comment value 4.32k  Package Reference: 1206  (hidden comment: 4.32k, 1206)
4.32k, 1206 SMT resistor, 1/4W, 1%; PackageDescription: Chip Resistor 1206; Supplier 1: Mouser; Supplier 2: Digi-Key; Supplier 3: Newark; Supplier Part Number 1: 667-ERJ-8ENF4321V; Supplier Part Number 2: P4.32KFCT-ND; Supplier Part Number 3: 90W3898
simulation model RESISTOR (Resistor)
signal-integrity model Res
footprint R1206 (Chip Resistor, Body 3.2x1.6mm, IPC Medium Density)
3D model 1206-Res (PCB3D Model)
pins: 1, 2

## 4.75kR-1206
designator R?, comment value 4.75k  Package Reference: 1206  (hidden comment: 4.75k, 1206)
4.75k, 1206 SMT resistor, 1/4W, 1%; PackageDescription: Chip Resistor 1206; Supplier 1: Mouser; Supplier 2: Digi-Key; Supplier 3: Newark; Supplier Part Number 1: 667-ERJ-8ENF4751V; Supplier Part Number 2: P4.75KFCT-ND; Supplier Part Number 3: 65T8875
simulation model RESISTOR (Resistor)
signal-integrity model Res
footprint R1206 (Chip Resistor, Body 3.2x1.6mm, IPC Medium Density)
3D model 1206-Res (PCB3D Model)
pins: 1, 2

## 5.11kR-1206
designator R?, comment value 5.11k  Package Reference: 1206  (hidden comment: 5.11k, 1206)
5.11k, 1206 SMT resistor, 1/4W, 1%; PackageDescription: Chip Resistor 1206; Supplier 1: Digi-Key; Supplier 2: Mouser; Supplier 3: Newark; Supplier Part Number 1: P5.11KFCT-ND; Supplier Part Number 2: 667-ERJ-8ENF5111V; Supplier Part Number 3: 65T8882
simulation model RESISTOR (Resistor)
signal-integrity model Res
footprint R1206 (Chip Resistor, Body 3.2x1.6mm, IPC Medium Density)
3D model 1206-Res (PCB3D Model)
pins: 1, 2

## 6.8kR-1206
designator R?, comment value 6.8k  Package Reference: 1206  (hidden comment: 6.8k, 1206)
6.8k, 1206 SMT resistor, 1/4W, 5%; PackageDescription: Chip Resistor 1206; Supplier 1: Mouser; Supplier 2: Digi-Key; Supplier 3: Newark; Supplier Part Number 1: 667-ERJ-8GEYJ682V; Supplier Part Number 2: P6.8KECT-ND; Supplier Part Number 3: 65T8958
simulation model RESISTOR (Resistor)
signal-integrity model Res
footprint R1206 (Chip Resistor, Body 3.2x1.6mm, IPC Medium Density)
3D model 1206-Res (PCB3D Model)
pins: 1, 2

## 6.19kR-1206
designator R?, comment value 6.19k  Package Reference: 1206  (hidden comment: 6.19k, 1206)
6.19k, 1206 SMT resistor, 1/4W, 1%; PackageDescription: Chip Resistor 1206; Supplier 1: Mouser; Supplier 2: Newark; Supplier 3: Digi-Key; Supplier Part Number 1: 667-ERJ-8ENF6191V; Supplier Part Number 2: 90W3967; Supplier Part Number 3: P6.19KFCT-ND
simulation model RESISTOR (Resistor)
signal-integrity model Res
footprint R1206 (Chip Resistor, Body 3.2x1.6mm, IPC Medium Density)
3D model 1206-Res (PCB3D Model)
pins: 1, 2

## 7.5kR-1206
designator R?, comment value 7.5k  Package Reference: 1206  (hidden comment: 7.5k, 1206)
7.5k, 1206 SMT resistor, 1/4W, 1%; PackageDescription: Chip Resistor 1206; Supplier 1: Mouser; Supplier 2: Newark; Supplier 3: Digi-Key; Supplier Part Number 1: 667-ERJ-8ENF7501V; Supplier Part Number 2: 53W5001; Supplier Part Number 3: P7.50KFCT-ND
simulation model RESISTOR (Resistor)
signal-integrity model Res
footprint R1206 (Chip Resistor, Body 3.2x1.6mm, IPC Medium Density)
3D model 1206-Res (PCB3D Model)
pins: 1, 2

## 7R5-1206
designator R?, comment value 7.5  Package Reference: 1206  (hidden comment: 7R5, 1206)
7R5, 1206 SMT resistor, 1/4W, 5%; PackageDescription: Chip Resistor 1206; Supplier 1: Mouser; Supplier 2: Digi-Key; Supplier Part Number 1: 667-ERJ-8GEYJ7R5V; Supplier Part Number 2: P7.5ECT-ND
simulation model RESISTOR (Resistor)
signal-integrity model Res
footprint R1206 (Chip Resistor, Body 3.2x1.6mm, IPC Medium Density)
3D model 1206-Res (PCB3D Model)
pins: 1, 2

## 9.09kR-1206
designator R?, comment value 9.09k  Package Reference: 1206  (hidden comment: 9.09k, 1206)
9.09k, 1206 SMT resistor, 1/4W, 1%; PackageDescription: Chip Resistor 1206; Supplier 1: Mouser; Supplier 2: Newark; Supplier 3: Digi-Key; Supplier Part Number 1: 667-ERJ-8ENF9091V; Supplier Part Number 2: 53W5004; Supplier Part Number 3: P9.09KFCT-ND
simulation model RESISTOR (Resistor)
signal-integrity model Res
footprint R1206 (Chip Resistor, Body 3.2x1.6mm, IPC Medium Density)
3D model 1206-Res (PCB3D Model)
pins: 1, 2

## 10kR-1206
designator R?, comment value 10k  Package Reference: 1206  (hidden comment: 10k, 1206)
10k, 1206 SMT resistor, 1/4W, 1%; PackageDescription: Chip Resistor 1206; Supplier 1: Mouser; Supplier 2: Newark; Supplier 3: Digi-Key; Supplier Part Number 1: 667-ERJ-8ENF1002V; Supplier Part Number 2: 64R5431; Supplier Part Number 3: P10.0KFCT-ND
simulation model RESISTOR (Resistor)
signal-integrity model Res
footprint R1206 (Chip Resistor, Body 3.2x1.6mm, IPC Medium Density)
3D model 1206-Res (PCB3D Model)
pins: 1, 2

## 11.5kR-1206
designator R?, comment value 11.5k  Package Reference: 1206  (hidden comment: 11.5k, 1206)
11.5k, 1206 SMT resistor, 1/4W, 1%; PackageDescription: Chip Resistor 1206; Supplier 1: Newark; Supplier 2: Mouser; Supplier 3: Digi-Key; Supplier Part Number 1: 90W3580; Supplier Part Number 2: 667-ERJ-8ENF1152V; Supplier Part Number 3: P11.5KFCT-ND
simulation model RESISTOR (Resistor)
signal-integrity model Res
footprint R1206 (Chip Resistor, Body 3.2x1.6mm, IPC Medium Density)
3D model 1206-Res (PCB3D Model)
pins: 1, 2

## 15kR-1206
designator R?, comment value 15k  Package Reference: 1206  (hidden comment: 15k, 1206)
15k, 1206 SMT resistor, 1/4W, 1%; PackageDescription: Chip Resistor 1206; Supplier 1: Mouser; Supplier 2: Newark; Supplier 3: Digi-Key; Supplier Part Number 1: 667-ERJ-8ENF1502V; Supplier Part Number 2: 64R5442; Supplier Part Number 3: P15.0KFCT-ND
simulation model RESISTOR (Resistor)
signal-integrity model Res
footprint R1206 (Chip Resistor, Body 3.2x1.6mm, IPC Medium Density)
3D model 1206-Res (PCB3D Model)
pins: 1, 2

## 16R5-1206
designator R?, comment value 16.5  Package Reference: 1206  (hidden comment: 16R5, 1206)
16R5, 1206 SMT resistor, 1/4W, 1%; PackageDescription: Chip Resistor 1206; Supplier 1: Newark; Supplier 2: Mouser; Supplier 3: Digi-Key; Supplier Part Number 1: 90W3663; Supplier Part Number 2: 667-ERJ-8ENF16R5V; Supplier Part Number 3: P16.5FCT-ND
simulation model RESISTOR (Resistor)
signal-integrity model Res
footprint R1206 (Chip Resistor, Body 3.2x1.6mm, IPC Medium Density)
3D model 1206-Res (PCB3D Model)
pins: 1, 2

## 20R0-1206
designator R?, comment value 20.0  Package Reference: 1206  (hidden comment: 20R0, 1206)
20R0, 1206 SMT resistor, 1/4W, 0.1%; PackageDescription: Chip Resistor 1206; Supplier 1: Mouser; Supplier 2: Digi-Key; Supplier 3: Newark; Supplier Part Number 1: 71-TNPW120620R0BEEN; Supplier Part Number 2: TNPW120620R0BEEA-ND; Supplier Part Number 3: 50X9037
simulation model RESISTOR (Resistor)
signal-integrity model Res
footprint R1206 (Chip Resistor, Body 3.2x1.6mm, IPC Medium Density)
3D model 1206-Res (PCB3D Model)
pins: 1, 2

## 22.1kR-1206
designator R?, comment value 22.1k  Package Reference: 1206  (hidden comment: 22.1k, 1206)
22.1k, 1206 SMT resistor, 1/4W, 1%; PackageDescription: Chip Resistor 1206; Supplier 1: Newark; Supplier 2: Mouser; Supplier 3: Digi-Key; Supplier Part Number 1: 65T8861; Supplier Part Number 2: 667-ERJ-8ENF2212V; Supplier Part Number 3: P22.1KFCT-ND
simulation model RESISTOR (Resistor)
signal-integrity model Res
footprint R1206 (Chip Resistor, Body 3.2x1.6mm, IPC Medium Density)
3D model 1206-Res (PCB3D Model)
pins: 1, 2

## 24R0-1206
designator R?, comment value 24.0  Package Reference: 1206  (hidden comment: 24R0, 1206)
24R0, 1206 SMT resistor, 1/4W, 1%; PackageDescription: Chip Resistor 1206; Supplier 1: Newark; Supplier 2: Mouser; Supplier 3: Digi-Key; Supplier Part Number 1: 90W3767; Supplier Part Number 2: 667-ERJ-8ENF24R0V; Supplier Part Number 3: P24.0FCT-ND
simulation model RESISTOR (Resistor)
signal-integrity model Res
footprint R1206 (Chip Resistor, Body 3.2x1.6mm, IPC Medium Density)
3D model 1206-Res (PCB3D Model)
pins: 1, 2

## 27.4kR-1206
designator R?, comment value 27.4k  Package Reference: 1206  (hidden comment: 27.4k, 1206)
27.4k, 1206 SMT resistor, 1/4W, 1%; PackageDescription: Chip Resistor 1206; Supplier 1: Digi-Key; Supplier 2: Mouser; Supplier 3: Newark; Supplier Part Number 1: P27.4KFCT-ND; Supplier Part Number 2: 667-ERJ-8ENF2742V; Supplier Part Number 3: 90W3795
simulation model RESISTOR (Resistor)
signal-integrity model Res
footprint R1206 (Chip Resistor, Body 3.2x1.6mm, IPC Medium Density)
3D model 1206-Res (PCB3D Model)
pins: 1, 2

## 30.1kR-1206
designator R?, comment value 30.1k  Package Reference: 1206  (hidden comment: 30.1k, 1206)
30.1k, 1206 SMT resistor, 1/4W, 1%; PackageDescription: Chip Resistor 1206; Supplier 1: Mouser; Supplier 2: Digi-Key; Supplier 3: Newark; Supplier Part Number 1: 667-ERJ-8ENF3012V; Supplier Part Number 2: P30.1KFCT-ND; Supplier Part Number 3: 53W4987
simulation model RESISTOR (Resistor)
signal-integrity model Res
footprint R1206 (Chip Resistor, Body 3.2x1.6mm, IPC Medium Density)
3D model 1206-Res (PCB3D Model)
pins: 1, 2

## 32.4kR-1206
designator R?, comment value 32.4k  Package Reference: 1206  (hidden comment: 32.4k, 1206)
32.4k 1206 SMT resistor, 1/4W, 1%; PackageDescription: Chip Resistor 1206; Supplier 1: Newark; Supplier 2: Mouser; Supplier 3: Digi-Key; Supplier Part Number 1: 90W3827; Supplier Part Number 2: 667-ERJ-8ENF3242V; Supplier Part Number 3: P32.4KFCT-ND
simulation model RESISTOR (Resistor)
signal-integrity model Res
footprint R1206 (Chip Resistor, Body 3.2x1.6mm, IPC Medium Density)
3D model 1206-Res (PCB3D Model)
pins: 1, 2

## 33R2-1206
designator R?, comment value 33.2  Package Reference: 1206  (hidden comment: 33R2, 1206)
33R2, 1206 SMT resistor, 1/4W, 1%; PackageDescription: Chip Resistor 1206; Supplier 1: Newark; Supplier 2: Mouser; Supplier 3: Digi-Key; Supplier Part Number 1: 90W3830; Supplier Part Number 2: 667-ERJ-8ENF33R2V; Supplier Part Number 3: P33.2FCT-ND
simulation model RESISTOR (Resistor)
signal-integrity model Res
footprint R1206 (Chip Resistor, Body 3.2x1.6mm, IPC Medium Density)
3D model 1206-Res (PCB3D Model)
pins: 1, 2

## 49.9kR-1206
designator R?, comment value 49.9k  Package Reference: 1206  (hidden comment: 49.9k, 1206)
49.9k, 1206 SMT resistor, 1/4W, 1%; PackageDescription: Chip Resistor 1206; Supplier 1: Mouser; Supplier 2: Digi-Key; Supplier 3: Newark; Supplier Part Number 1: 667-ERJ-8ENF4992V; Supplier Part Number 2: P49.9KFCT-ND; Supplier Part Number 3: 65T8880
simulation model RESISTOR (Resistor)
signal-integrity model Res
footprint R1206 (Chip Resistor, Body 3.2x1.6mm, IPC Medium Density)
3D model 1206-Res (PCB3D Model)
pins: 1, 2

## 49R9-1206
designator R?, comment value 49.9  Package Reference: 1206  (hidden comment: 49R9, 1206)
49R9, 1206 SMT resistor, 1/4W, 1%; PackageDescription: Chip Resistor 1206; Supplier 1: Digi-Key; Supplier 2: Mouser; Supplier 3: Newark; Supplier Part Number 1: P49.9FCT-ND; Supplier Part Number 2: 667-ERJ-8ENF49R9V; Supplier Part Number 3: 65T8877
simulation model RESISTOR (Resistor)
signal-integrity model Res
footprint R1206 (Chip Resistor, Body 3.2x1.6mm, IPC Medium Density)
3D model 1206-Res (PCB3D Model)
pins: 1, 2

## 51R1-1206
designator R?, comment value 51.1  Package Reference: 1206  (hidden comment: 51R1, 1206)
51R1, 1206 SMT resistor, 1/4W, 1%; PackageDescription: Chip Resistor 1206; Supplier 1: Newark; Supplier 2: Digi-Key; Supplier 3: Mouser; Supplier Part Number 1: 90W3926; Supplier Part Number 2: P51.1FCT-ND; Supplier Part Number 3: 667-ERJ-8ENF51R1V
simulation model RESISTOR (Resistor)
signal-integrity model Res
footprint R1206 (Chip Resistor, Body 3.2x1.6mm, IPC Medium Density)
3D model 1206-Res (PCB3D Model)
pins: 1, 2

## 63R4-1206
designator R?, comment value 63.4  Package Reference: 1206  (hidden comment: 63R4, 1206)
63R4, 1206 SMT resistor, 1/4W, 1%; PackageDescription: Chip Resistor 1206; Supplier 1: Mouser; Supplier 2: Digi-Key; Supplier 3: Newark; Supplier Part Number 1: 667-ERJ-8ENF63R4V; Supplier Part Number 2: P63.4FCT-ND; Supplier Part Number 3: 90W3975
simulation model RESISTOR (Resistor)
signal-integrity model Res
footprint R1206 (Chip Resistor, Body 3.2x1.6mm, IPC Medium Density)
3D model 1206-Res (PCB3D Model)
pins: 1, 2

## 68.1kR-1206
designator R?, comment value 68.1k  Package Reference: 1206  (hidden comment: 68.1k, 1206)
68.1k, 1206 SMT resistor, 1/4W, 1%; PackageDescription: Chip Resistor 1206; Supplier 1: Mouser; Supplier 2: Newark; Supplier 3: Digi-Key; Supplier Part Number 1: 667-ERJ-8ENF6812V; Supplier Part Number 2: 90W3995; Supplier Part Number 3: P68.1KFCT-ND
simulation model RESISTOR (Resistor)
signal-integrity model Res
footprint R1206 (Chip Resistor, Body 3.2x1.6mm, IPC Medium Density)
3D model 1206-Res (PCB3D Model)
pins: 1, 2

## 82R5-1206
designator R?, comment value 82.5  Package Reference: 1206  (hidden comment: 82R5, 1206)
82R5, 1206 SMT resistor, 1/4W, 1%; PackageDescription: Chip Resistor 1206; Supplier 1: Digi-Key; Supplier 2: Mouser; Supplier 3: Newark; Supplier Part Number 1: P82.5FCT-ND; Supplier Part Number 2: 667-ERJ-8ENF82R5V; Supplier Part Number 3: 90W4027
simulation model RESISTOR (Resistor)
signal-integrity model Res
footprint R1206 (Chip Resistor, Body 3.2x1.6mm, IPC Medium Density)
3D model 1206-Res (PCB3D Model)
pins: 1, 2

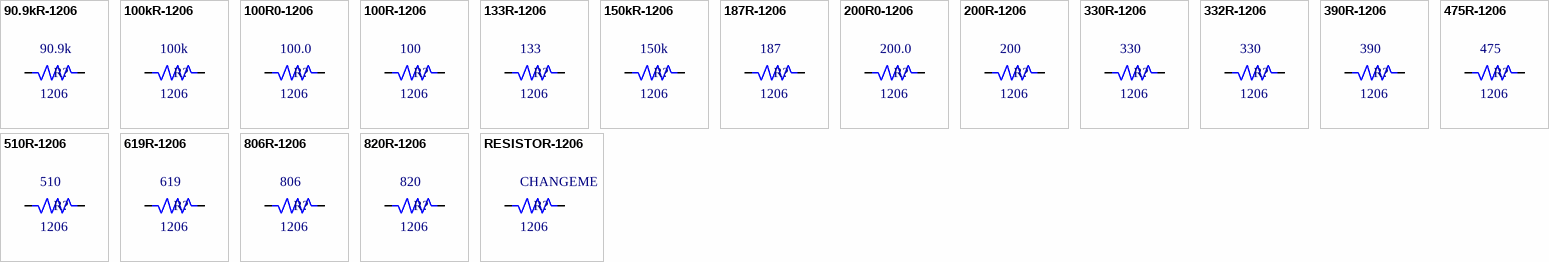
[diagram p6: symbols 90.9kR-1206 to RESISTOR-1206]

## 90.9kR-1206
designator R?, comment value 90.9k  Package Reference: 1206  (hidden comment: 90.9k, 1206)
90.9k, 1206 SMT resistor, 1/4W, 1%; PackageDescription: Chip Resistor 1206; Supplier 1: Mouser; Supplier 2: Digi-Key; Supplier 3: Newark; Supplier Part Number 1: 667-ERJ-8ENF9092V; Supplier Part Number 2: P90.9KFCT-ND; Supplier Part Number 3: 90W4052
simulation model RESISTOR (Resistor)
signal-integrity model Res
footprint R1206 (Chip Resistor, Body 3.2x1.6mm, IPC Medium Density)
3D model 1206-Res (PCB3D Model)
pins: 1, 2

## 100kR-1206
designator R?, comment value 100k  Package Reference: 1206  (hidden comment: 100k, 1206)
100k, 1206 SMT resistor, 1/4W, 1%; PackageDescription: Chip Resistor 1206; Supplier 1: Mouser; Supplier 2: Newark; Supplier 3: Digi-Key; Supplier Part Number 1: 667-ERJ-8ENF1003V; Supplier Part Number 2: 64R5432; Supplier Part Number 3: P100KFCT-ND
simulation model RESISTOR (Resistor)
signal-integrity model Res
footprint R1206 (Chip Resistor, Body 3.2x1.6mm, IPC Medium Density)
3D model 1206-Res (PCB3D Model)
pins: 1, 2

## 100R0-1206
designator R?, comment value 100.0  Package Reference: 1206  (hidden comment: 100R0, 1206)
100R0, 1206 SMT resistor, 1/4W, 1%; PackageDescription: Chip Resistor 1206; Supplier 1: Mouser; Supplier 2: Digi-Key; Supplier 3: Newark; Supplier Part Number 1: 667-ERJ-8ENF1000V; Supplier Part Number 2: P100FCT-ND; Supplier Part Number 3: 64R5429
simulation model RESISTOR (Resistor)
signal-integrity model Res
footprint R1206 (Chip Resistor, Body 3.2x1.6mm, IPC Medium Density)
3D model 1206-Res (PCB3D Model)
pins: 1, 2

## 100R-1206
designator R?, comment value 100  Package Reference: 1206  (hidden comment: 100R, 1206)
100R,  1206 SMT resistor, 1/4W, 5%; PackageDescription: Chip Resistor 1206; Supplier 1: Newark; Supplier 2: Digi-Key; Supplier 3: Mouser; Supplier Part Number 1: 65T8893; Supplier Part Number 2: P100ECT-ND; Supplier Part Number 3: 667-ERJ-8GEYJ101V
simulation model RESISTOR (Resistor)
signal-integrity model Res
footprint R1206 (Chip Resistor, Body 3.2x1.6mm, IPC Medium Density)
3D model 1206-Res (PCB3D Model)
pins: 1, 2

## 133R-1206
designator R?, comment value 133  Package Reference: 1206  (hidden comment: 133R, 1206)
133R, 1206 SMT resistor, 1/4W, 1%; PackageDescription: Chip Resistor 1206; Supplier 1: Mouser; Supplier 2: Newark; Supplier 3: Digi-Key; Supplier Part Number 1: 667-ERJ-8ENF1330V; Supplier Part Number 2: 90W3615; Supplier Part Number 3: P133FCT-ND
simulation model RESISTOR (Resistor)
signal-integrity model Res
footprint R1206 (Chip Resistor, Body 3.2x1.6mm, IPC Medium Density)
3D model 1206-Res (PCB3D Model)
pins: 1, 2

## 150kR-1206
designator R?, comment value 150k  Package Reference: 1206  (hidden comment: 150k, 1206)
150k, 1206 SMT resistor, 1/4W, 1%; PackageDescription: Chip Resistor 1206; Supplier 1: Mouser; Supplier 2: Newark; Supplier 3: Digi-Key; Supplier Part Number 1: 667-ERJ-8ENF1503V; Supplier Part Number 2: 64R5443; Supplier Part Number 3: P150KFCT-ND
simulation model RESISTOR (Resistor)
signal-integrity model Res
footprint R1206 (Chip Resistor, Body 3.2x1.6mm, IPC Medium Density)
3D model 1206-Res (PCB3D Model)
pins: 1, 2

## 187R-1206
designator R?, comment value 187  Package Reference: 1206  (hidden comment: 187R, 1206)
187R, 1206 SMT resistor, 1/4W, 1%; PackageDescription: Chip Resistor 1206; Supplier 1: Newark; Supplier 2: Mouser; Supplier 3: Digi-Key; Supplier Part Number 1: 90W3709; Supplier Part Number 2: 667-ERJ-8ENF1870V; Supplier Part Number 3: P187FCT-ND
simulation model RESISTOR (Resistor)
signal-integrity model Res
footprint R1206 (Chip Resistor, Body 3.2x1.6mm, IPC Medium Density)
3D model 1206-Res (PCB3D Model)
pins: 1, 2

## 200R0-1206
designator R?, comment value 200.0  Package Reference: 1206  (hidden comment: 200R, 1206)
200R, 1206 SMT resistor, 1/4W, 1%; PackageDescription: Chip Resistor 1206; Supplier 1: Newark; Supplier 2: Digi-Key; Supplier 3: Mouser; Supplier Part Number 1: 65T8854; Supplier Part Number 2: P200FCT-ND; Supplier Part Number 3: 667-ERJ-8ENF2000V
simulation model RESISTOR (Resistor)
signal-integrity model Res
footprint R1206 (Chip Resistor, Body 3.2x1.6mm, IPC Medium Density)
3D model 1206-Res (PCB3D Model)
pins: 1, 2

## 200R-1206
designator R?, comment value 200  Package Reference: 1206  (hidden comment: 200R, 1206)
200R, 1206 SMT resistor, 1/4W, 5%; PackageDescription: Chip Resistor 1206; Supplier 1: Digi-Key; Supplier 2: Newark; Supplier 3: Mouser; Supplier Part Number 1: P200ECT-ND; Supplier Part Number 2: 65T8913; Supplier Part Number 3: 667-ERJ-8GEYJ201V
simulation model RESISTOR (Resistor)
signal-integrity model Res
footprint R1206 (Chip Resistor, Body 3.2x1.6mm, IPC Medium Density)
3D model 1206-Res (PCB3D Model)
pins: 1, 2

## 330R-1206
designator R?, comment value 330  Package Reference: 1206  (hidden comment: 330, 1206)
330R, 1206 SMT resistor, 1/4W, 5%; PackageDescription: Chip Resistor 1206; Supplier 1: Digi-Key; Supplier 2: Mouser; Supplier Part Number 1: P330ALCT-ND; Supplier Part Number 2: 667-ERJ-P08J331V
simulation model RESISTOR (Resistor)
signal-integrity model Res
footprint R1206 (Chip Resistor, Body 3.2x1.6mm, IPC Medium Density)
3D model 1206-Res (PCB3D Model)
pins: 1, 2

## 332R-1206
designator R?, comment value 330  Package Reference: 1206  (hidden comment: ERJ-8ENF3320V)
332R, 1206 SMT resistor, 1/4W, 1%; PackageDescription: Chip Resistor 1206; Supplier 1: Newark; Supplier 2: Mouser; Supplier 3: Digi-Key; Supplier Part Number 1: 65T8868; Supplier Part Number 2: 667-ERJ-8ENF3320V; Supplier Part Number 3: P332FCT-ND; Part Number: ERJ-8ENF3320V
simulation model RESISTOR (Resistor)
signal-integrity model Res
footprint R1206 (Chip Resistor, Body 3.2x1.6mm, IPC Medium Density)
3D model 1206-Res (PCB3D Model)
pins: 1, 2